# EAGLE library part TA8440H (library mita-akiba)
Toshiba Linear IC Average 1.5A Peak 3A CW/CCW, Open, Brake PWM chopping control C-MOS compatible input Pull-up reg. 200kOhm(typ), Pull-down reg. 100k(typ)
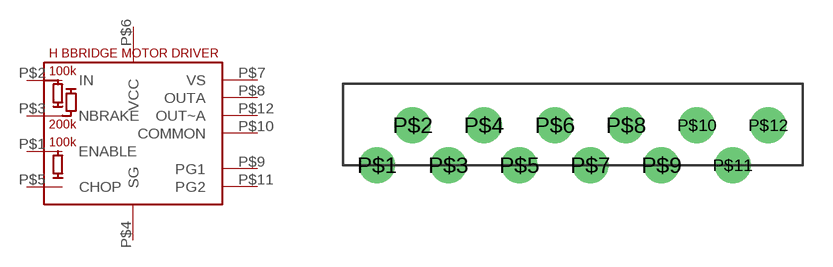
[diagram p31: symbol with the pads of HZIP12-P-1.78B; footprint HZIP12-P-1.78B]

Designator prefix -

## TA8440H  [HZIP12-P-1.78B]
P$1  ENABLE  in
P$2  IN  in
P$3  NBRAKE  in
P$4  SG  pwr
P$5  CHOP  in
P$6  VCC  pwr
P$7  VS
P$8  OUTA
P$9  PG1
P$10  COMMON
P$11  PG2
P$12  OUT~A

## Footprint HZIP12-P-1.78B (pad centres in mm)
drill 1.2 pad 1.778: P$1 -9.779,-2; P$2 -8.001,0; P$3 -6.223,-2; P$4 -4.445,0; P$5 -2.667,-2; P$6 -0.889,0; P$7 0.889,-2; P$8 2.667,0; P$9 4.445,-2; P$10 6.223,0; P$11 8.001,-2; P$12 9.779,0